# EAGLE library part MICROSD (library jason_eagle6)
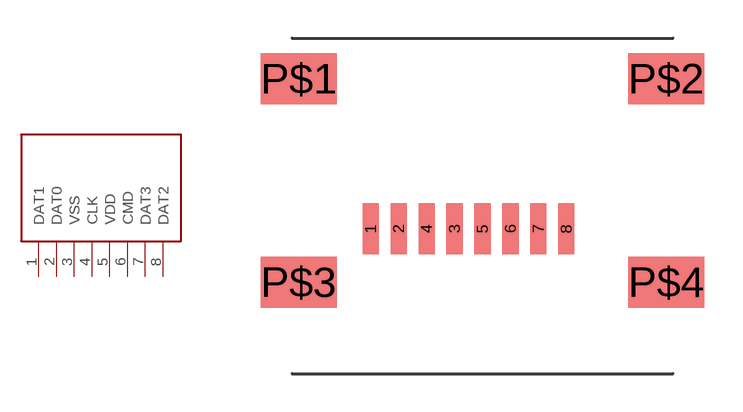
[diagram p42: symbol with the pads of MICROSD; footprint MICROSD]

Designator prefix -

## MICROSD  [MICROSD]
1  DAT1
2  DAT0
3  VSS
4  CLK
5  VDD
6  CMD
7  DAT3
8  DAT2

## Footprint MICROSD (pad centres in mm)
smd 0.635 x 2: 1 -4.4,-0.9; 2 -3.3,-0.9; 3 -1.1,-0.9; 4 -2.2,-0.9; 5 0,-0.9; 6 1.1,-0.9; 7 2.2,-0.9; 8 3.3,-0.9
smd 3 x 2: P$1 -7.23,5; P$2 7.23,5; P$3 -7.23,-3; P$4 7.23,-3